# EAGLE library part TSW-D-56_S (library con-samtec-tsw)
HEADER
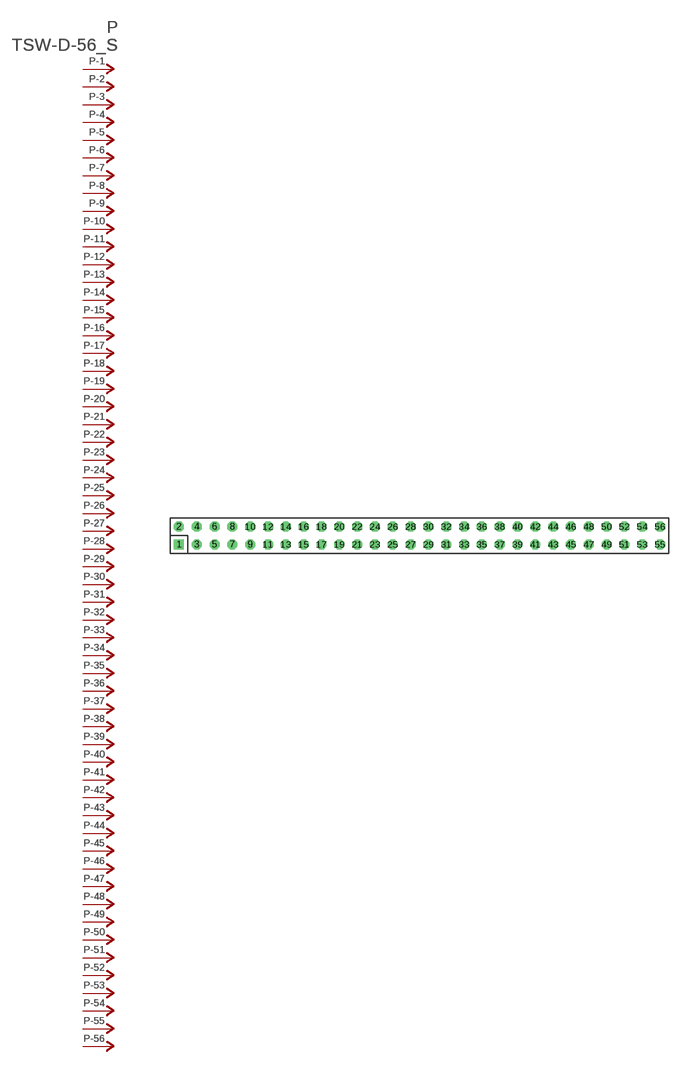
[diagram p163: symbol with the pads of TSW-D-56; footprint TSW-D-56]

Designator prefix P; gates -1=P-NV -2=P-N -3=P-N -4=P-N -5=P-N -6=P-N -7=P-N -8=P-N -9=P-N -10=P-N -11=P-N -12=P-N -13=P-N -14=P-N -15=P-N -16=P-N -17=P-N -18=P-N -19=P-N -20=P-N -21=P-N -22=P-N -23=P-N -24=P-N -25=P-N -26=P-N -27=P-N -28=P-N -29=P-N -30=P-N -31=P-N -32=P-N -33=P-N -34=P-N -35=P-N -36=P-N -37=P-N -38=P-N -39=P-N -40=P-N -41=P-N -42=P-N -43=P-N -44=P-N -45=P-N -46=P-N -47=P-N -48=P-N -49=P-N -50=P-N -51=P-N -52=P-N -53=P-N -54=P-N -55=P-N -56=P-N

## TSW-D-56_S  [TSW-D-56]
1  -1:P  pas
2  -2:P  pas
3  -3:P  pas
4  -4:P  pas
5  -5:P  pas
6  -6:P  pas
7  -7:P  pas
8  -8:P  pas
9  -9:P  pas
10  -10:P  pas
11  -11:P  pas
12  -12:P  pas
13  -13:P  pas
14  -14:P  pas
15  -15:P  pas
16  -16:P  pas
17  -17:P  pas
18  -18:P  pas
19  -19:P  pas
20  -20:P  pas
21  -21:P  pas
22  -22:P  pas
23  -23:P  pas
24  -24:P  pas
25  -25:P  pas
26  -26:P  pas
27  -27:P  pas
28  -28:P  pas
29  -29:P  pas
30  -30:P  pas
31  -31:P  pas
32  -32:P  pas
33  -33:P  pas
34  -34:P  pas
35  -35:P  pas
36  -36:P  pas
37  -37:P  pas
38  -38:P  pas
39  -39:P  pas
40  -40:P  pas
41  -41:P  pas
42  -42:P  pas
43  -43:P  pas
44  -44:P  pas
45  -45:P  pas
46  -46:P  pas
47  -47:P  pas
48  -48:P  pas
49  -49:P  pas
50  -50:P  pas
51  -51:P  pas
52  -52:P  pas
53  -53:P  pas
54  -54:P  pas
55  -55:P  pas
56  -56:P  pas

## Footprint TSW-D-56 (pad centres in mm)
HEADER
drill 0.914 square: 1 -34.29,-1.27
drill 0.914 octagon: 2 -34.29,1.27; 3 -31.75,-1.27; 4 -31.75,1.27; 5 -29.21,-1.27; 6 -29.21,1.27; 7 -26.67,-1.27; 8 -26.67,1.27; 9 -24.13,-1.27; 10 -24.13,1.27; 11 -21.59,-1.27; 12 -21.59,1.27; 13 -19.05,-1.27; 14 -19.05,1.27; 15 -16.51,-1.27; 16 -16.51,1.27; 17 -13.97,-1.27; 18 -13.97,1.27; 19 -11.43,-1.27; 20 -11.43,1.27; 21 -8.89,-1.27; 22 -8.89,1.27; 23 -6.35,-1.27; 24 -6.35,1.27; 25 -3.81,-1.27; 26 -3.81,1.27; 27 -1.27,-1.27; 28 -1.27,1.27; 29 1.27,-1.27; 30 1.27,1.27; 31 3.81,-1.27; 32 3.81,1.27; 33 6.35,-1.27; 34 6.35,1.27; 35 8.89,-1.27; 36 8.89,1.27; 37 11.43,-1.27; 38 11.43,1.27; 39 13.97,-1.27; 40 13.97,1.27; 41 16.51,-1.27; 42 16.51,1.27; 43 19.05,-1.27; 44 19.05,1.27; 45 21.59,-1.27; 46 21.59,1.27; 47 24.13,-1.27; 48 24.13,1.27; 49 26.67,-1.27; 50 26.67,1.27; 51 29.21,-1.27; 52 29.21,1.27; 53 31.75,-1.27; 54 31.75,1.27; 55 34.29,-1.27; 56 34.29,1.27